# Altium footprint library ESP8266_COLOCK.PcbLib: 1 footprints
Each footprint in its own frame and in the unit in brackets; x right, y up, seen from the top. Pads: shape width x height; smd on the part's side, far side on the other; paste and mask are expansions set on the pad; w line width, h text height; cw(c..) or ccw(c..) is an arc to the next point about the centre after c.
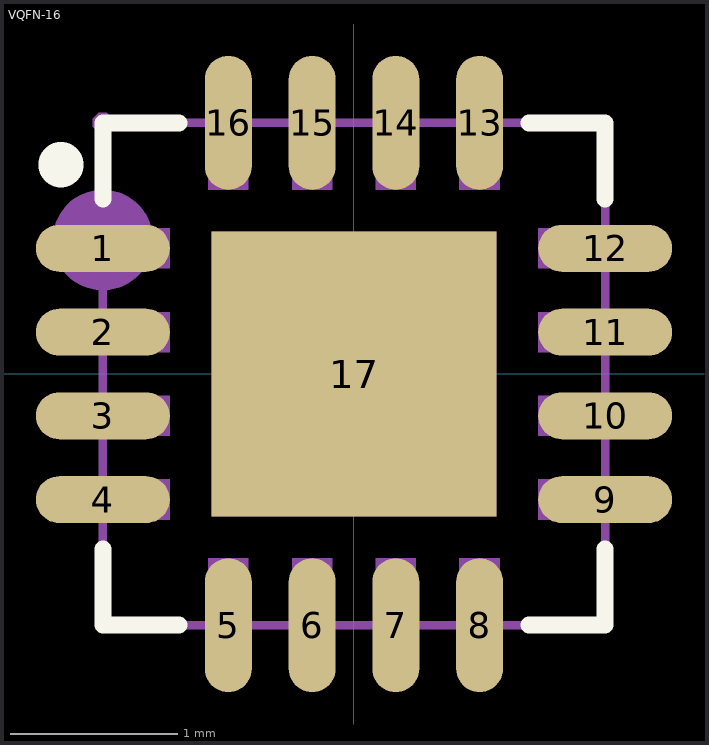
[diagram p0: the footprint, top view; thin cyan lines are the x and y axes]

## VQFN-16 [mm]
pads (17):
  oval 0.8x0.28 smd mask+0.05: 1(-1.5,0.75) 2(-1.5,0.25) 3(-1.5,-0.25) 4(-1.5,-0.75) 9(1.5,-0.75) 10(1.5,-0.25) 11(1.5,0.25) 12(1.5,0.75)
  oval 0.28x0.8 smd mask+0.05: 5(-0.75,-1.5) 6(-0.25,-1.5) 7(0.25,-1.5) 8(0.75,-1.5) 13(0.75,1.5) 14(0.25,1.5) 15(-0.25,1.5) 16(-0.75,1.5)
  rect 1.7x1.7 smd mask+0.05: 17(0,0)
Top Overlay:
  lines w0.102: -1.5,-1.044 -1.5,-1.5 -1.044,-1.5 ; -1.5,1.044 -1.5,1.5 -1.044,1.5 ; 1.044,-1.5 1.5,-1.5 1.5,-1.044 ; 1.044,1.5 1.5,1.5 1.5,1.044
  lines w0.25: -1.74,1.249 cw(c-1.75,1.25) -1.74,1.251
Top Paste:
  drawing of 17 lines, arcs and shapes, not listed
Mechanical 6:
  circle w0.3: c-1.5,0.8 r0.15
Mechanical 15:
  region: -1.5,0.87 -1.1,0.87 -1.1,0.63 -1.5,0.63
  region: -1.5,0.37 -1.1,0.37 -1.1,0.13 -1.5,0.13
  region: -1.5,-0.13 -1.1,-0.13 -1.1,-0.37 -1.5,-0.37
  region: -1.5,-0.63 -1.1,-0.63 -1.1,-0.87 -1.5,-0.87
  region: 1.1,0.87 1.5,0.87 1.5,0.63 1.1,0.63
  region: 1.1,0.37 1.5,0.37 1.5,0.13 1.1,0.13
  region: 1.1,-0.13 1.5,-0.13 1.5,-0.37 1.1,-0.37
  region: 1.1,-0.63 1.5,-0.63 1.5,-0.87 1.1,-0.87
  region: -0.87,-1.1 -0.63,-1.1 -0.63,-1.5 -0.87,-1.5
  region: -0.37,-1.1 -0.13,-1.1 -0.13,-1.5 -0.37,-1.5
  region: 0.13,-1.1 0.37,-1.1 0.37,-1.5 0.13,-1.5
  region: 0.63,-1.1 0.87,-1.1 0.87,-1.5 0.63,-1.5
  region: -0.87,1.5 -0.63,1.5 -0.63,1.1 -0.87,1.1
  region: -0.37,1.5 -0.13,1.5 -0.13,1.1 -0.37,1.1
  region: 0.13,1.5 0.37,1.5 0.37,1.1 0.13,1.1
  region: 0.63,1.5 0.87,1.5 0.87,1.1 0.63,1.1
  region: 0.85,0.85 0.85,-0.85 -0.85,-0.85 -0.85,0.85
  region: -1.44,1.5 -1.44,1.525 -1.475,1.56 -1.525,1.56 -1.56,1.525 -1.56,1.5 -1.56,1.475 -1.525,1.44 -1.475,1.44 -1.44,1.475 -1.44,1.5
  lines w0.051: -1.5,-1.5 -1.5,1.5 1.5,1.5 1.5,-1.5 -1.5,-1.5
3D body "RGT16_1P7X1P7_TEX.step": height 1, standoff 0, extent -1.626,-1.626 1.626,1.626